# Altium footprint library KF接线端子.PcbLib: 153 footprints (part 6 of 10)
Each footprint in its own frame and in the unit in brackets; x right, y up, seen from the top. Pads: shape width x height; smd on the part's side, far side on the other; paste and mask are expansions set on the pad; w line width, h text height; cw(c..) or ccw(c..) is an arc to the next point about the centre after c.
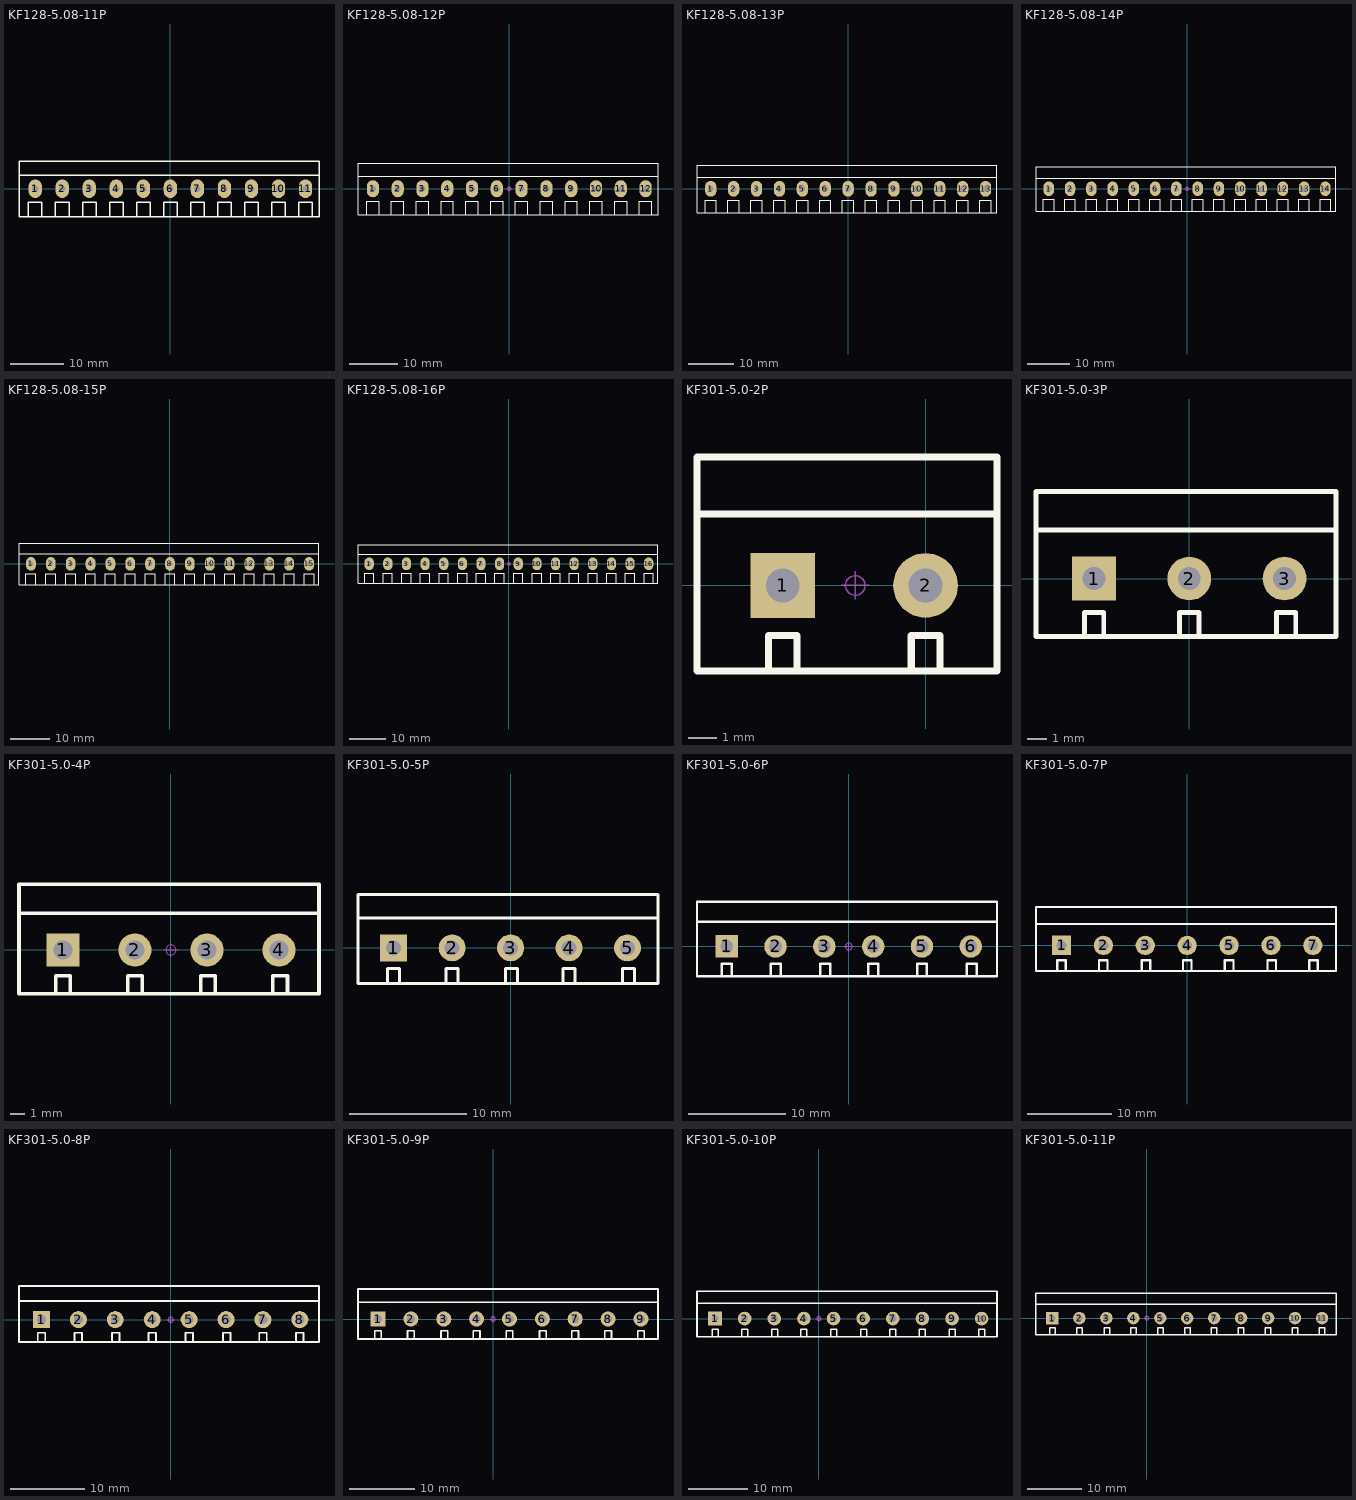
[diagram p5: the footprints below, top view; thin cyan lines are the x and y axes]

## KF128-5.08-11P [mm] "螺钉式接线端子，脚距5.08mm"
pads (11):
  oval 2.5x3.5 hole 1.2: 1(-25.4,0) 2(-20.32,0) 3(-15.24,0) 4(-10.16,0) 5(-5.08,0) 6(0,0) 7(5.08,0) 8(10.16,0) 9(15.24,0) 10(20.32,0) 11(25.4,0)
Top Overlay:
  lines w0.254: -28.448,2.54 27.94,2.54 ; -26.67,-5.309 -26.67,-2.54 -24.13,-2.54 -24.13,-5.309 ; -21.59,-5.309 -21.59,-2.54 -19.05,-2.54 -19.05,-5.309 ; -16.51,-5.309 -16.51,-2.54 -13.97,-2.54 -13.97,-5.309 ; -11.43,-5.309 -11.43,-2.54 -8.89,-2.54 -8.89,-5.309 ; -6.35,-5.309 -6.35,-2.54 -3.81,-2.54 -3.81,-5.309 ; -1.27,-5.309 -1.27,-2.54 1.27,-2.54 1.27,-5.309 ; 3.81,-5.309 3.81,-2.54 6.35,-2.54 6.35,-5.309 ; 8.89,-5.309 8.89,-2.54 11.43,-2.54 11.43,-5.309 ; 13.97,-5.309 13.97,-2.54 16.51,-2.54 16.51,-5.309 ; 19.05,-5.309 19.05,-2.54 21.59,-2.54 21.59,-5.309 ; 24.13,-5.309 24.13,-2.54 26.67,-2.54 26.67,-5.309 ; -28.448,-5.309 -28.448,5.207 27.94,5.207 27.94,-5.309 -28.448,-5.309
Mechanical 15:
  circle w0.05: c0,0 r0.35
  lines w0.05: -0.5,0 0.5,0 ; 0,-0.5 0,0.5
3D body: height 14.15, standoff -3.95, extent 17.28,-5.3 22.86,5.2
3D body: height 14.15, standoff -3.95, extent 7.12,-5.3 12.7,5.2
3D body: height 14.15, standoff -3.95, extent -3.04,-5.3 2.54,5.2
3D body: height 14.15, standoff -3.95, extent -18.28,-5.3 -12.7,5.2
3D body: height 14.15, standoff -3.95, extent -28.44,-5.3 -22.86,5.2
3D body: height 14.15, standoff -3.95, extent -23.36,-5.3 -17.78,5.2
3D body: height 14.15, standoff -3.95, extent -13.2,-5.3 -7.62,5.2
3D body: height 14.15, standoff -3.95, extent -8.12,-5.3 -2.54,5.2
3D body: height 14.15, standoff -3.95, extent 2.04,-5.3 7.62,5.2
3D body: height 14.15, standoff -3.95, extent 12.2,-5.3 17.78,5.2
3D body: height 14.15, standoff -3.95, extent 22.36,-5.3 27.94,5.2

## KF128-5.08-12P [mm] "螺钉式接线端子，脚距5.08mm"
pads (12):
  oval 2.5x3.5 hole 1.2: 1(-27.94,0) 2(-22.86,0) 3(-17.78,0) 4(-12.7,0) 5(-7.62,0) 6(-2.54,0) 7(2.54,0) 8(7.62,0) 9(12.7,0) 10(17.78,0) 11(22.86,0) 12(27.94,0)
Top Overlay:
  lines w0.254: -30.988,2.54 30.48,2.54 ; -29.21,-5.309 -29.21,-2.54 -26.67,-2.54 -26.67,-5.309 ; -24.13,-5.309 -24.13,-2.54 -21.59,-2.54 -21.59,-5.309 ; -19.05,-5.309 -19.05,-2.54 -16.51,-2.54 -16.51,-5.309 ; -13.97,-5.309 -13.97,-2.54 -11.43,-2.54 -11.43,-5.309 ; -8.89,-5.309 -8.89,-2.54 -6.35,-2.54 -6.35,-5.309 ; -3.81,-5.309 -3.81,-2.54 -1.27,-2.54 -1.27,-5.309 ; 1.27,-5.309 1.27,-2.54 3.81,-2.54 3.81,-5.309 ; 6.35,-5.309 6.35,-2.54 8.89,-2.54 8.89,-5.309 ; 11.43,-5.309 11.43,-2.54 13.97,-2.54 13.97,-5.309 ; 16.51,-5.309 16.51,-2.54 19.05,-2.54 19.05,-5.309 ; 21.59,-5.309 21.59,-2.54 24.13,-2.54 24.13,-5.309 ; 26.67,-5.309 26.67,-2.54 29.21,-2.54 29.21,-5.309 ; -30.988,-5.309 -30.988,5.207 30.48,5.207 30.48,-5.309 -30.988,-5.309
Mechanical 15:
  circle w0.05: c0,0 r0.35
  lines w0.05: -0.5,0 0.5,0 ; 0,-0.5 0,0.5
3D body: height 14.15, standoff -3.95, extent 24.9,-5.3 30.48,5.2
3D body: height 14.15, standoff -3.95, extent 14.74,-5.3 20.32,5.2
3D body: height 14.15, standoff -3.95, extent 4.58,-5.3 10.16,5.2
3D body: height 14.15, standoff -3.95, extent -5.58,-5.3 0,5.2
3D body: height 14.15, standoff -3.95, extent -20.82,-5.3 -15.24,5.2
3D body: height 14.15, standoff -3.95, extent -30.98,-5.3 -25.4,5.2
3D body: height 14.15, standoff -3.95, extent -25.9,-5.3 -20.32,5.2
3D body: height 14.15, standoff -3.95, extent -15.74,-5.3 -10.16,5.2
3D body: height 14.15, standoff -3.95, extent -10.66,-5.3 -5.08,5.2
3D body: height 14.15, standoff -3.95, extent -0.5,-5.3 5.08,5.2
3D body: height 14.15, standoff -3.95, extent 9.66,-5.3 15.24,5.2
3D body: height 14.15, standoff -3.95, extent 19.82,-5.3 25.4,5.2

## KF128-5.08-13P [mm] "螺钉式接线端子，脚距5.08mm"
pads (13):
  oval 2.5x3.5 hole 1.2: 1(-30.48,0) 2(-25.4,0) 3(-20.32,0) 4(-15.24,0) 5(-10.16,0) 6(-5.08,0) 7(0,0) 8(5.08,0) 9(10.16,0) 10(15.24,0) 11(20.32,0) 12(25.4,0) 13(30.48,0)
Top Overlay:
  lines w0.254: -33.528,2.54 33.02,2.54 ; -31.75,-5.309 -31.75,-2.54 -29.21,-2.54 -29.21,-5.309 ; -26.67,-5.309 -26.67,-2.54 -24.13,-2.54 -24.13,-5.309 ; -21.59,-5.309 -21.59,-2.54 -19.05,-2.54 -19.05,-5.309 ; -16.51,-5.309 -16.51,-2.54 -13.97,-2.54 -13.97,-5.309 ; -11.43,-5.309 -11.43,-2.54 -8.89,-2.54 -8.89,-5.309 ; -6.35,-5.309 -6.35,-2.54 -3.81,-2.54 -3.81,-5.309 ; -1.27,-5.309 -1.27,-2.54 1.27,-2.54 1.27,-5.309 ; 3.81,-5.309 3.81,-2.54 6.35,-2.54 6.35,-5.309 ; 8.89,-5.309 8.89,-2.54 11.43,-2.54 11.43,-5.309 ; 13.97,-5.309 13.97,-2.54 16.51,-2.54 16.51,-5.309 ; 19.05,-5.309 19.05,-2.54 21.59,-2.54 21.59,-5.309 ; 24.13,-5.309 24.13,-2.54 26.67,-2.54 26.67,-5.309 ; 29.21,-5.309 29.21,-2.54 31.75,-2.54 31.75,-5.309 ; -33.528,-5.309 -33.528,5.207 33.02,5.207 33.02,-5.309 -33.528,-5.309
Mechanical 15:
  circle w0.05: c0,0 r0.35
  lines w0.05: -0.5,0 0.5,0 ; 0,-0.5 0,0.5
3D body: height 14.15, standoff -3.95, extent 22.36,-5.3 27.94,5.2
3D body: height 14.15, standoff -3.95, extent 12.2,-5.3 17.78,5.2
3D body: height 14.15, standoff -3.95, extent 2.04,-5.3 7.62,5.2
3D body: height 14.15, standoff -3.95, extent -8.12,-5.3 -2.54,5.2
3D body: height 14.15, standoff -3.95, extent -23.36,-5.3 -17.78,5.2
3D body: height 14.15, standoff -3.95, extent -33.52,-5.3 -27.94,5.2
3D body: height 14.15, standoff -3.95, extent -28.44,-5.3 -22.86,5.2
3D body: height 14.15, standoff -3.95, extent -18.28,-5.3 -12.7,5.2
3D body: height 14.15, standoff -3.95, extent -13.2,-5.3 -7.62,5.2
3D body: height 14.15, standoff -3.95, extent -3.04,-5.3 2.54,5.2
3D body: height 14.15, standoff -3.95, extent 7.12,-5.3 12.7,5.2
3D body: height 14.15, standoff -3.95, extent 17.28,-5.3 22.86,5.2
3D body: height 14.15, standoff -3.95, extent 27.44,-5.3 33.02,5.2

## KF128-5.08-14P [mm] "螺钉式接线端子，脚距5.08mm"
pads (14):
  oval 2.5x3.5 hole 1.2: 1(-33.02,0) 2(-27.94,0) 3(-22.86,0) 4(-17.78,0) 5(-12.7,0) 6(-7.62,0) 7(-2.54,0) 8(2.54,0) 9(7.62,0) 10(12.7,0) 11(17.78,0) 12(22.86,0) 13(27.94,0) 14(33.02,0)
Top Overlay:
  lines w0.254: -36.068,2.54 35.56,2.54 ; -34.29,-5.309 -34.29,-2.54 -31.75,-2.54 -31.75,-5.309 ; -29.21,-5.309 -29.21,-2.54 -26.67,-2.54 -26.67,-5.309 ; -24.13,-5.309 -24.13,-2.54 -21.59,-2.54 -21.59,-5.309 ; -19.05,-5.309 -19.05,-2.54 -16.51,-2.54 -16.51,-5.309 ; -13.97,-5.309 -13.97,-2.54 -11.43,-2.54 -11.43,-5.309 ; -8.89,-5.309 -8.89,-2.54 -6.35,-2.54 -6.35,-5.309 ; -3.81,-5.309 -3.81,-2.54 -1.27,-2.54 -1.27,-5.309 ; 1.27,-5.309 1.27,-2.54 3.81,-2.54 3.81,-5.309 ; 6.35,-5.309 6.35,-2.54 8.89,-2.54 8.89,-5.309 ; 11.43,-5.309 11.43,-2.54 13.97,-2.54 13.97,-5.309 ; 16.51,-5.309 16.51,-2.54 19.05,-2.54 19.05,-5.309 ; 21.59,-5.309 21.59,-2.54 24.13,-2.54 24.13,-5.309 ; 26.67,-5.309 26.67,-2.54 29.21,-2.54 29.21,-5.309 ; 31.75,-5.309 31.75,-2.54 34.29,-2.54 34.29,-5.309 ; -36.068,-5.309 35.56,-5.309 35.56,5.207 -36.068,5.207 -36.068,-5.309
Mechanical 15:
  circle w0.05: c0,0 r0.35
  lines w0.05: -0.5,0 0.5,0 ; 0,-0.5 0,0.5
3D body: height 14.15, standoff -3.95, extent 24.9,-5.3 30.48,5.2
3D body: height 14.15, standoff -3.95, extent 14.74,-5.3 20.32,5.2
3D body: height 14.15, standoff -3.95, extent 4.58,-5.3 10.16,5.2
3D body: height 14.15, standoff -3.95, extent -5.58,-5.3 0,5.2
3D body: height 14.15, standoff -3.95, extent -15.74,-5.3 -10.16,5.2
3D body: height 14.15, standoff -3.95, extent -20.82,-5.3 -15.24,5.2
3D body: height 14.15, standoff -3.95, extent -30.98,-5.3 -25.4,5.2
3D body: height 14.15, standoff -3.95, extent -36.06,-5.3 -30.48,5.2
3D body: height 14.15, standoff -3.95, extent -25.9,-5.3 -20.32,5.2
3D body: height 14.15, standoff -3.95, extent -10.66,-5.3 -5.08,5.2
3D body: height 14.15, standoff -3.95, extent -0.5,-5.3 5.08,5.2
3D body: height 14.15, standoff -3.95, extent 9.66,-5.3 15.24,5.2
3D body: height 14.15, standoff -3.95, extent 19.82,-5.3 25.4,5.2
3D body: height 14.15, standoff -3.95, extent 29.98,-5.3 35.56,5.2

## KF128-5.08-15P [mm] "螺钉式接线端子，脚距5.08mm"
pads (15):
  oval 2.5x3.5 hole 1.2: 1(-35.56,0) 2(-30.48,0) 3(-25.4,0) 4(-20.32,0) 5(-15.24,0) 6(-10.16,0) 7(-5.08,0) 8(0,0) 9(5.08,0) 10(10.16,0) 11(15.24,0) 12(20.32,0) 13(25.4,0) 14(30.48,0) 15(35.56,0)
Top Overlay:
  lines w0.254: -38.608,2.54 38.1,2.54 ; -36.83,-5.309 -36.83,-2.54 -34.29,-2.54 -34.29,-5.309 ; -31.75,-5.309 -31.75,-2.54 -29.21,-2.54 -29.21,-5.309 ; -26.67,-5.309 -26.67,-2.54 -24.13,-2.54 -24.13,-5.309 ; -21.59,-5.309 -21.59,-2.54 -19.05,-2.54 -19.05,-5.309 ; -16.51,-5.309 -16.51,-2.54 -13.97,-2.54 -13.97,-5.309 ; -11.43,-5.309 -11.43,-2.54 -8.89,-2.54 -8.89,-5.309 ; -6.35,-5.309 -6.35,-2.54 -3.81,-2.54 -3.81,-5.309 ; -1.27,-5.309 -1.27,-2.54 1.27,-2.54 1.27,-5.309 ; 3.81,-5.309 3.81,-2.54 6.35,-2.54 6.35,-5.309 ; 8.89,-5.309 8.89,-2.54 11.43,-2.54 11.43,-5.309 ; 13.97,-5.309 13.97,-2.54 16.51,-2.54 16.51,-5.309 ; 19.05,-5.309 19.05,-2.54 21.59,-2.54 21.59,-5.309 ; 24.13,-5.309 24.13,-2.54 26.67,-2.54 26.67,-5.309 ; 29.21,-5.309 29.21,-2.54 31.75,-2.54 31.75,-5.309 ; 34.29,-5.309 34.29,-2.54 36.83,-2.54 36.83,-5.309 ; -38.608,-5.309 -38.608,5.207 38.1,5.207 38.1,-5.309 -38.608,-5.309
Mechanical 15:
  circle w0.05: c0,0 r0.35
  lines w0.05: -0.5,0 0.5,0 ; 0,-0.5 0,0.5
3D body: height 14.15, standoff -3.95, extent 27.44,-5.3 33.02,5.2
3D body: height 14.15, standoff -3.95, extent 17.28,-5.3 22.86,5.2
3D body: height 14.15, standoff -3.95, extent 7.12,-5.3 12.7,5.2
3D body: height 14.15, standoff -3.95, extent -3.04,-5.3 2.54,5.2
3D body: height 14.15, standoff -3.95, extent -13.2,-5.3 -7.62,5.2
3D body: height 14.15, standoff -3.95, extent -28.44,-5.3 -22.86,5.2
3D body: height 14.15, standoff -3.95, extent -38.6,-5.3 -33.02,5.2
3D body: height 14.15, standoff -3.95, extent -33.52,-5.3 -27.94,5.2
3D body: height 14.15, standoff -3.95, extent -23.36,-5.3 -17.78,5.2
3D body: height 14.15, standoff -3.95, extent -18.28,-5.3 -12.7,5.2
3D body: height 14.15, standoff -3.95, extent -8.12,-5.3 -2.54,5.2
3D body: height 14.15, standoff -3.95, extent 2.04,-5.3 7.62,5.2
3D body: height 14.15, standoff -3.95, extent 12.2,-5.3 17.78,5.2
3D body: height 14.15, standoff -3.95, extent 22.36,-5.3 27.94,5.2
3D body: height 14.15, standoff -3.95, extent 32.52,-5.3 38.1,5.2

## KF128-5.08-16P [mm] "螺钉式接线端子，脚距5.08mm"
pads (16):
  oval 2.5x3.5 hole 1.2: 1(-38.1,0) 2(-33.02,0) 3(-27.94,0) 4(-22.86,0) 5(-17.78,0) 6(-12.7,0) 7(-7.62,0) 8(-2.54,0) 9(2.54,0) 10(7.62,0) 11(12.7,0) 12(17.78,0) 13(22.86,0) 14(27.94,0) 15(33.02,0) 16(38.1,0)
Top Overlay:
  lines w0.254: -41.148,2.54 40.64,2.54 ; -39.37,-5.309 -39.37,-2.54 -36.83,-2.54 -36.83,-5.309 ; -34.29,-5.309 -34.29,-2.54 -31.75,-2.54 -31.75,-5.309 ; -29.21,-5.309 -29.21,-2.54 -26.67,-2.54 -26.67,-5.309 ; -24.13,-5.309 -24.13,-2.54 -21.59,-2.54 -21.59,-5.309 ; -19.05,-5.309 -19.05,-2.54 -16.51,-2.54 -16.51,-5.309 ; -13.97,-5.309 -13.97,-2.54 -11.43,-2.54 -11.43,-5.309 ; -8.89,-5.309 -8.89,-2.54 -6.35,-2.54 -6.35,-5.309 ; -3.81,-5.309 -3.81,-2.54 -1.27,-2.54 -1.27,-5.309 ; 1.27,-5.309 1.27,-2.54 3.81,-2.54 3.81,-5.309 ; 6.35,-5.309 6.35,-2.54 8.89,-2.54 8.89,-5.309 ; 11.43,-5.309 11.43,-2.54 13.97,-2.54 13.97,-5.309 ; 16.51,-5.309 16.51,-2.54 19.05,-2.54 19.05,-5.309 ; 21.59,-5.309 21.59,-2.54 24.13,-2.54 24.13,-5.309 ; 26.67,-5.309 26.67,-2.54 29.21,-2.54 29.21,-5.309 ; 31.75,-5.309 31.75,-2.54 34.29,-2.54 34.29,-5.309 ; 36.83,-5.309 36.83,-2.54 39.37,-2.54 39.37,-5.309 ; -41.148,-5.309 -41.148,5.207 40.64,5.207 40.64,-5.309 -41.148,-5.309
Mechanical 15:
  circle w0.05: c0,0 r0.35
  lines w0.05: -0.5,0 0.5,0 ; 0,-0.5 0,0.5
3D body: height 14.15, standoff -3.95, extent 35.06,-5.3 40.64,5.2
3D body: height 14.15, standoff -3.95, extent 24.9,-5.3 30.48,5.2
3D body: height 14.15, standoff -3.95, extent 14.74,-5.3 20.32,5.2
3D body: height 14.15, standoff -3.95, extent 4.58,-5.3 10.16,5.2
3D body: height 14.15, standoff -3.95, extent -5.58,-5.3 0,5.2
3D body: height 14.15, standoff -3.95, extent -15.74,-5.3 -10.16,5.2
3D body: height 14.15, standoff -3.95, extent -30.98,-5.3 -25.4,5.2
3D body: height 14.15, standoff -3.95, extent -41.14,-5.3 -35.56,5.2
3D body: height 14.15, standoff -3.95, extent -36.06,-5.3 -30.48,5.2
3D body: height 14.15, standoff -3.95, extent -25.9,-5.3 -20.32,5.2
3D body: height 14.15, standoff -3.95, extent -20.82,-5.3 -15.24,5.2
3D body: height 14.15, standoff -3.95, extent -10.66,-5.3 -5.08,5.2
3D body: height 14.15, standoff -3.95, extent -0.5,-5.3 5.08,5.2
3D body: height 14.15, standoff -3.95, extent 9.66,-5.3 15.24,5.2
3D body: height 14.15, standoff -3.95, extent 19.82,-5.3 25.4,5.2
3D body: height 14.15, standoff -3.95, extent 29.98,-5.3 35.56,5.2

## KF301-5.0-2P [mm] "可拼接端子/6A"
pads (2):
  rect 2.3x2.3 hole 1.2: 1(-5.08,0)
  round 2.3 hole 1.2: 2(0,0)
Top Overlay:
  lines w0.254: -8.128,2.54 2.54,2.54 ; -5.588,-3.048 -5.588,-1.778 -4.572,-1.778 -4.572,-3.048 ; -0.508,-3.048 -0.508,-1.778 0.508,-1.778 0.508,-3.048 ; -8.128,-3.048 2.54,-3.048 2.54,4.572 -8.128,4.572 -8.128,-3.048
Mechanical 15:
  circle w0.05: c-2.5,0 r0.35
  lines w0.05: -3,0 -2,0 ; -2.5,-0.5 -2.5,0.5
3D body: height 10.05, standoff -3.75, extent -2.95,-3 2.55,4.6
3D body: height 10.05, standoff -3.75, extent -7.95,-3 -2.45,4.6

## KF301-5.0-3P [mm] "可拼接端子/6A"
pads (3):
  rect 2.3x2.3 hole 1.2: 1(-5,0)
  round 2.3 hole 1.2: 2(0,0) 3(5,0)
Top Overlay:
  lines w0.254: -8.048,2.54 7.7,2.54 ; -5.508,-3.048 -5.508,-1.778 -4.492,-1.778 -4.492,-3.048 ; -0.508,-3.048 -0.508,-1.778 0.508,-1.778 0.508,-3.048 ; 4.572,-3.048 4.572,-1.778 5.588,-1.778 5.588,-3.048 ; -8.048,-3.048 -8.048,4.572 7.7,4.572 7.7,-3.048 -8.048,-3.048
Mechanical 15:
  circle w0.05: c0,0 r0.35
  lines w0.05: -0.5,0 0.5,0 ; 0,-0.5 0,0.5
3D body: height 10.05, standoff -3.75, extent 2.13,-3 7.63,4.6
3D body: height 10.05, standoff -3.75, extent -2.87,-3 2.63,4.6
3D body: height 10.05, standoff -3.75, extent -7.87,-3 -2.37,4.6

## KF301-5.0-4P [mm] "可拼接端子/6A"
pads (4):
  rect 2.3x2.3 hole 1.3: 1(-7.5,0)
  round 2.3 hole 1.3: 2(-2.5,0) 3(2.5,0) 4(7.5,0)
Top Overlay:
  lines w0.254: -10.548,2.54 10.28,2.54 ; -8.008,-3.048 -8.008,-1.778 -6.992,-1.778 -6.992,-3.048 ; -3.008,-3.048 -3.008,-1.778 -1.992,-1.778 -1.992,-3.048 ; 2.072,-3.048 2.072,-1.778 3.088,-1.778 3.088,-3.048 ; 7.072,-3.048 7.072,-1.778 8.088,-1.778 8.088,-3.048 ; -10.548,-3.048 -10.548,4.572 10.28,4.572 10.28,-3.048 -10.548,-3.048
Mechanical 15:
  circle w0.05: c0,0 r0.35
  lines w0.05: -0.5,0 0.5,0 ; 0,-0.5 0,0.5
3D body: height 10.05, standoff -3.75, extent -10.37,-3 -4.87,4.6
3D body: height 10.05, standoff -3.75, extent -5.37,-3 0.13,4.6
3D body: height 10.05, standoff -3.75, extent -0.37,-3 5.13,4.6
3D body: height 10.05, standoff -3.75, extent 4.63,-3 10.13,4.6

## KF301-5.0-5P [mm] "可拼接端子/6A"
pads (5):
  rect 2.3x2.3 hole 1.3: 1(-10,0)
  round 2.3 hole 1.3: 2(-5,0) 3(0,0) 4(5,0) 5(10,0)
Top Overlay:
  lines w0.254: -13.048,2.54 12.606,2.54 ; -10.508,-3.048 -10.508,-1.778 -9.492,-1.778 -9.492,-3.048 ; -5.508,-3.048 -5.508,-1.778 -4.492,-1.778 -4.492,-3.048 ; -0.428,-3.048 -0.428,-1.778 0.588,-1.778 0.588,-3.048 ; 4.492,-3.048 4.492,-1.778 5.508,-1.778 5.508,-3.048 ; 9.572,-3.048 9.572,-1.778 10.588,-1.778 10.588,-3.048 ; -13.048,-3.048 -13.048,4.572 12.606,4.572 12.606,-3.048 -13.048,-3.048
Mechanical 15:
  circle w0.05: c0,0 r0.35
  lines w0.05: -0.5,0 0.5,0 ; 0,-0.5 0,0.5
3D body: height 10.05, standoff -3.75, extent 7.05,-3 12.55,4.6
3D body: height 10.05, standoff -3.75, extent 2.05,-3 7.55,4.6
3D body: height 10.05, standoff -3.75, extent -2.95,-3 2.55,4.6
3D body: height 10.05, standoff -3.75, extent -7.95,-3 -2.45,4.6
3D body: height 10.05, standoff -3.75, extent -12.87,-3 -7.37,4.6

## KF301-5.0-6P [mm] "可拼接端子/6A"
pads (6):
  rect 2.3x2.3 hole 1.3: 1(-12.5,0)
  round 2.3 hole 1.3: 2(-7.5,0) 3(-2.5,0) 4(2.5,0) 5(7.5,0) 6(12.5,0)
Top Overlay:
  lines w0.254: -15.548,2.54 15.186,2.54 ; -13.008,-3.048 -13.008,-1.778 -11.992,-1.778 -11.992,-3.048 ; -8.008,-3.048 -8.008,-1.778 -6.992,-1.778 -6.992,-3.048 ; -2.928,-3.048 -2.928,-1.778 -1.912,-1.778 -1.912,-3.048 ; 1.992,-3.048 1.992,-1.778 3.008,-1.778 3.008,-3.048 ; 6.992,-3.048 6.992,-1.778 8.008,-1.778 8.008,-3.048 ; 12.072,-3.048 12.072,-1.778 13.088,-1.778 13.088,-3.048 ; -15.548,-3.048 15.186,-3.048 15.186,4.572 -15.548,4.572 -15.548,-3.048
Mechanical 15:
  circle w0.05: c0,0 r0.35
  lines w0.05: -0.5,0 0.5,0 ; 0,-0.5 0,0.5
3D body: height 10.05, standoff -3.75, extent 9.63,-3 15.13,4.6
3D body: height 10.05, standoff -3.75, extent 4.63,-3 10.13,4.6
3D body: height 10.05, standoff -3.75, extent -0.37,-3 5.13,4.6
3D body: height 10.05, standoff -3.75, extent -5.37,-3 0.13,4.6
3D body: height 10.05, standoff -3.75, extent -10.37,-3 -4.87,4.6
3D body: height 10.05, standoff -3.75, extent -15.37,-3 -9.87,4.6

## KF301-5.0-7P [mm] "可拼接端子/6A"
pads (7):
  rect 2.3x2.3 hole 1.2: 1(-15,0)
  round 2.3 hole 1.2: 2(-10,0) 3(-5,0) 4(0,0) 5(5,0) 6(10,0) 7(15,0)
Top Overlay:
  lines w0.254: -18.048,2.54 17.766,2.54 ; -15.508,-3.048 -15.508,-1.778 -14.492,-1.778 -14.492,-3.048 ; -10.508,-3.048 -10.508,-1.778 -9.492,-1.778 -9.492,-3.048 ; -5.428,-3.048 -5.428,-1.778 -4.412,-1.778 -4.412,-3.048 ; -0.508,-3.048 -0.508,-1.778 0.508,-1.778 0.508,-3.048 ; 4.492,-3.048 4.492,-1.778 5.508,-1.778 5.508,-3.048 ; 9.572,-3.048 9.572,-1.778 10.588,-1.778 10.588,-3.048 ; 14.572,-3.048 14.572,-1.778 15.588,-1.778 15.588,-3.048 ; -18.048,-3.048 17.766,-3.048 17.766,4.572 -18.048,4.572 -18.048,-3.048
Mechanical 15:
  circle w0.05: c0,0 r0.35
  lines w0.05: -0.5,0 0.5,0 ; 0,-0.5 0,0.5
3D body: height 10.05, standoff -3.75, extent 12.13,-3 17.63,4.6
3D body: height 10.05, standoff -3.75, extent -17.87,-3 -12.37,4.6
3D body: height 10.05, standoff -3.75, extent -12.87,-3 -7.37,4.6
3D body: height 10.05, standoff -3.75, extent -7.87,-3 -2.37,4.6
3D body: height 10.05, standoff -3.75, extent -2.87,-3 2.63,4.6
3D body: height 10.05, standoff -3.75, extent 2.13,-3 7.63,4.6
3D body: height 10.05, standoff -3.75, extent 7.13,-3 12.63,4.6

## KF301-5.0-8P [mm] "可拼接端子/6A"
pads (8):
  rect 2.3x2.3 hole 1.2: 1(-17.5,0)
  round 2.3 hole 1.2: 2(-12.5,0) 3(-7.5,0) 4(-2.5,0) 5(2.5,0) 6(7.5,0) 7(12.5,0) 8(17.5,0)
Top Overlay:
  lines w0.254: -20.548,2.54 20.092,2.54 ; -18.008,-3.048 -18.008,-1.778 -16.992,-1.778 -16.992,-3.048 ; -13.008,-3.048 -13.008,-1.778 -11.992,-1.778 -11.992,-3.048 ; -7.928,-3.048 -7.928,-1.778 -6.912,-1.778 -6.912,-3.048 ; -3.008,-3.048 -3.008,-1.778 -1.992,-1.778 -1.992,-3.048 ; 1.992,-3.048 1.992,-1.778 3.008,-1.778 3.008,-3.048 ; 7.072,-3.048 7.072,-1.778 8.088,-1.778 8.088,-3.048 ; 11.992,-3.048 11.992,-1.778 13.008,-1.778 13.008,-3.048 ; 16.992,-3.048 16.992,-1.778 18.008,-1.778 18.008,-3.048 ; -20.548,-3.048 -20.548,4.572 20.092,4.572 20.092,-3.048 -20.548,-3.048
Mechanical 15:
  circle w0.05: c0,0 r0.35
  lines w0.05: -0.5,0 0.5,0 ; 0,-0.5 0,0.5
3D body: height 10.05, standoff -3.75, extent -20.37,-3 -14.87,4.6
3D body: height 10.05, standoff -3.75, extent -15.37,-3 -9.87,4.6
3D body: height 10.05, standoff -3.75, extent -10.37,-3 -4.87,4.6
3D body: height 10.05, standoff -3.75, extent -5.37,-3 0.13,4.6
3D body: height 10.05, standoff -3.75, extent -0.37,-3 5.13,4.6
3D body: height 10.05, standoff -3.75, extent 4.63,-3 10.13,4.6
3D body: height 10.05, standoff -3.75, extent 9.63,-3 15.13,4.6
3D body: height 10.05, standoff -3.75, extent 14.63,-3 20.13,4.6

## KF301-5.0-9P [mm] "可拼接端子/6A"
pads (9):
  rect 2.3x2.3 hole 1.2: 1(-17.5,0)
  round 2.3 hole 1.2: 2(-12.5,0) 3(-7.5,0) 4(-2.5,0) 5(2.5,0) 6(7.5,0) 7(12.5,0) 8(17.5,0) 9(22.5,0)
Top Overlay:
  lines w0.254: -20.548,2.54 20.092,2.54 25.052,2.54 ; -18.008,-3.048 -18.008,-1.778 -16.992,-1.778 -16.992,-3.048 ; -13.008,-3.048 -13.008,-1.778 -11.992,-1.778 -11.992,-3.048 ; -7.928,-3.048 -7.928,-1.778 -6.912,-1.778 -6.912,-3.048 ; -3.008,-3.048 -3.008,-1.778 -1.992,-1.778 -1.992,-3.048 ; 1.992,-3.048 1.992,-1.778 3.008,-1.778 3.008,-3.048 ; 7.072,-3.048 7.072,-1.778 8.088,-1.778 8.088,-3.048 ; 11.992,-3.048 11.992,-1.778 13.008,-1.778 13.008,-3.048 ; 16.992,-3.048 16.992,-1.778 18.008,-1.778 18.008,-3.048 ; 21.992,-3.048 21.992,-1.778 23.008,-1.778 23.008,-3.048 ; -20.548,-3.048 20.092,-3.048 25.092,-3.048 25.092,4.572 20.092,4.572 -20.548,4.572 -20.548,-3.048
Mechanical 15:
  circle w0.05: c0,0 r0.35
  lines w0.05: -0.5,0 0.5,0 ; 0,-0.5 0,0.5
3D body: height 10.05, standoff -3.75, extent 19.63,-3 25.13,4.6
3D body: height 10.05, standoff -3.75, extent 14.63,-3 20.13,4.6
3D body: height 10.05, standoff -3.75, extent 9.63,-3 15.13,4.6
3D body: height 10.05, standoff -3.75, extent 4.63,-3 10.13,4.6
3D body: height 10.05, standoff -3.75, extent -0.37,-3 5.13,4.6
3D body: height 10.05, standoff -3.75, extent -5.37,-3 0.13,4.6
3D body: height 10.05, standoff -3.75, extent -10.37,-3 -4.87,4.6
3D body: height 10.05, standoff -3.75, extent -15.37,-3 -9.87,4.6
3D body: height 10.05, standoff -3.75, extent -20.37,-3 -14.87,4.6

## KF301-5.0-10P [mm] "可拼接端子/6A"
pads (10):
  rect 2.3x2.3 hole 1.2: 1(-17.5,0)
  round 2.3 hole 1.2: 2(-12.5,0) 3(-7.5,0) 4(-2.5,0) 5(2.5,0) 6(7.5,0) 7(12.5,0) 8(17.5,0) 9(22.5,0) 10(27.5,0)
Top Overlay:
  lines w0.254: -20.548,2.54 20.092,2.54 25.052,2.54 ; -18.008,-3.048 -18.008,-1.778 -16.992,-1.778 -16.992,-3.048 ; -13.008,-3.048 -13.008,-1.778 -11.992,-1.778 -11.992,-3.048 ; -7.928,-3.048 -7.928,-1.778 -6.912,-1.778 -6.912,-3.048 ; -3.008,-3.048 -3.008,-1.778 -1.992,-1.778 -1.992,-3.048 ; 1.992,-3.048 1.992,-1.778 3.008,-1.778 3.008,-3.048 ; 7.072,-3.048 7.072,-1.778 8.088,-1.778 8.088,-3.048 ; 11.992,-3.048 11.992,-1.778 13.008,-1.778 13.008,-3.048 ; 16.992,-3.048 16.992,-1.778 18.008,-1.778 18.008,-3.048 ; 21.992,-3.048 21.992,-1.778 23.008,-1.778 23.008,-3.048 ; 25.092,2.54 30.052,2.54 ; 26.992,-3.048 26.992,-1.778 28.008,-1.778 28.008,-3.048 ; -20.548,-3.048 -20.548,4.572 20.092,4.572 25.092,4.572 30.092,4.572 30.092,-3.048 25.092,-3.048 20.092,-3.048 -20.548,-3.048
Mechanical 15:
  circle w0.05: c0,0 r0.35
  lines w0.05: -0.5,0 0.5,0 ; 0,-0.5 0,0.5
3D body: height 10.05, standoff -3.75, extent 24.63,-3 30.13,4.6
3D body: height 10.05, standoff -3.75, extent -20.37,-3 -14.87,4.6
3D body: height 10.05, standoff -3.75, extent -15.37,-3 -9.87,4.6
3D body: height 10.05, standoff -3.75, extent -10.37,-3 -4.87,4.6
3D body: height 10.05, standoff -3.75, extent -5.37,-3 0.13,4.6
3D body: height 10.05, standoff -3.75, extent -0.37,-3 5.13,4.6
3D body: height 10.05, standoff -3.75, extent 4.63,-3 10.13,4.6
3D body: height 10.05, standoff -3.75, extent 9.63,-3 15.13,4.6
3D body: height 10.05, standoff -3.75, extent 14.63,-3 20.13,4.6
3D body: height 10.05, standoff -3.75, extent 19.63,-3 25.13,4.6

## KF301-5.0-11P [mm] "可拼接端子/6A"
pads (11):
  rect 2.3x2.3 hole 1.2: 1(-17.5,0)
  round 2.3 hole 1.2: 2(-12.5,0) 3(-7.5,0) 4(-2.5,0) 5(2.5,0) 6(7.5,0) 7(12.5,0) 8(17.5,0) 9(22.5,0) 10(27.5,0) 11(32.5,0)
Top Overlay:
  lines w0.254: -20.548,2.54 20.092,2.54 25.052,2.54 ; -18.008,-3.048 -18.008,-1.778 -16.992,-1.778 -16.992,-3.048 ; -13.008,-3.048 -13.008,-1.778 -11.992,-1.778 -11.992,-3.048 ; -7.928,-3.048 -7.928,-1.778 -6.912,-1.778 -6.912,-3.048 ; -3.008,-3.048 -3.008,-1.778 -1.992,-1.778 -1.992,-3.048 ; 1.992,-3.048 1.992,-1.778 3.008,-1.778 3.008,-3.048 ; 7.072,-3.048 7.072,-1.778 8.088,-1.778 8.088,-3.048 ; 11.992,-3.048 11.992,-1.778 13.008,-1.778 13.008,-3.048 ; 16.992,-3.048 16.992,-1.778 18.008,-1.778 18.008,-3.048 ; 21.992,-3.048 21.992,-1.778 23.008,-1.778 23.008,-3.048 ; 25.092,2.54 30.052,2.54 ; 26.992,-3.048 26.992,-1.778 28.008,-1.778 28.008,-3.048 ; 30.092,2.54 35.052,2.54 ; 31.992,-3.048 31.992,-1.778 33.008,-1.778 33.008,-3.048 ; -20.548,-3.048 20.092,-3.048 25.092,-3.048 30.092,-3.048 35.092,-3.048 35.092,4.572 30.092,4.572 25.092,4.572 20.092,4.572 -20.548,4.572 -20.548,-3.048
Mechanical 15:
  circle w0.05: c0,0 r0.35
  lines w0.05: -0.5,0 0.5,0 ; 0,-0.5 0,0.5
3D body: height 10.05, standoff -3.75, extent 29.63,-3 35.13,4.6
3D body: height 10.05, standoff -3.75, extent 19.63,-3 25.13,4.6
3D body: height 10.05, standoff -3.75, extent 14.63,-3 20.13,4.6
3D body: height 10.05, standoff -3.75, extent 9.63,-3 15.13,4.6
3D body: height 10.05, standoff -3.75, extent 4.63,-3 10.13,4.6
3D body: height 10.05, standoff -3.75, extent -0.37,-3 5.13,4.6
3D body: height 10.05, standoff -3.75, extent -5.37,-3 0.13,4.6
3D body: height 10.05, standoff -3.75, extent -10.37,-3 -4.87,4.6
3D body: height 10.05, standoff -3.75, extent -15.37,-3 -9.87,4.6
3D body: height 10.05, standoff -3.75, extent -20.37,-3 -14.87,4.6
3D body: height 10.05, standoff -3.75, extent 24.63,-3 30.13,4.6